# EAGLE library part ?M14B-SRSS-TB (library con-jst2)
Disconnectable Crimp style connector, 1.0mm pitch 14 contacts
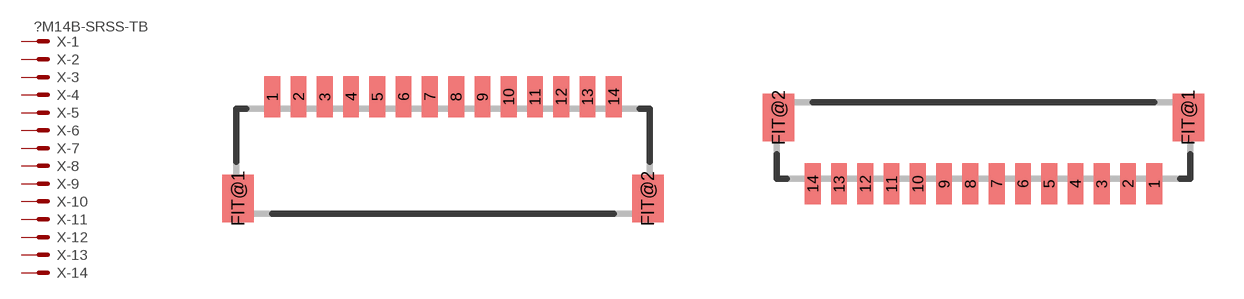
[diagram p30: symbol with the pads of SM14B-SRSS-TB; footprints SM14B-SRSS-TB, BM14B-SRSS-TB]

Designator prefix X; gates -1=KV -2=K -3=K -4=K -5=K -6=K -7=K -8=K -9=K -10=K -11=K -12=K -13=K -14=K

## SM14B-SRSS-TB  [SM14B-SRSS-TB]
1  -1:S  pas
2  -2:S  pas
3  -3:S  pas
4  -4:S  pas
5  -5:S  pas
6  -6:S  pas
7  -7:S  pas
8  -8:S  pas
9  -9:S  pas
10  -10:S  pas
11  -11:S  pas
12  -12:S  pas
13  -13:S  pas
14  -14:S  pas

## BM14B-SRSS-TB  [BM14B-SRSS-TB]
Pads as for SM14B-SRSS-TB

## Footprint SM14B-SRSS-TB (pad centres in mm)
Shrouded Header, side entry type
smd 0.6 x 1.55: 1 -6.5,2.975; 2 -5.5,2.975; 3 -4.5,2.975; 4 -3.5,2.975; 5 -2.5,2.975; 6 -1.5,2.975; 7 -0.5,2.975; 8 0.5,2.975; 9 1.5,2.975; 10 2.5,2.975; 11 3.5,2.975; 12 4.5,2.975; 13 5.5,2.975; 14 6.5,2.975
smd 1.2 x 1.8: FIT@1 -7.8,-0.9; FIT@2 7.8,-0.9

## Footprint BM14B-SRSS-TB (pad centres in mm)
Shrouded Header, top entry type
smd 0.6 x 1.55: 1 6.5,-1.625; 2 5.5,-1.625; 3 4.5,-1.625; 4 3.5,-1.625; 5 2.5,-1.625; 6 1.5,-1.625; 7 0.5,-1.625; 8 -0.5,-1.625; 9 -1.5,-1.625; 10 -2.5,-1.625; 11 -3.5,-1.625; 12 -4.5,-1.625; 13 -5.5,-1.625; 14 -6.5,-1.625
smd 1.2 x 1.8: FIT@1 7.8,0.9; FIT@2 -7.8,0.9